# EAGLE library part LOGIC_7432 (library akita)
7432, 4x2OR
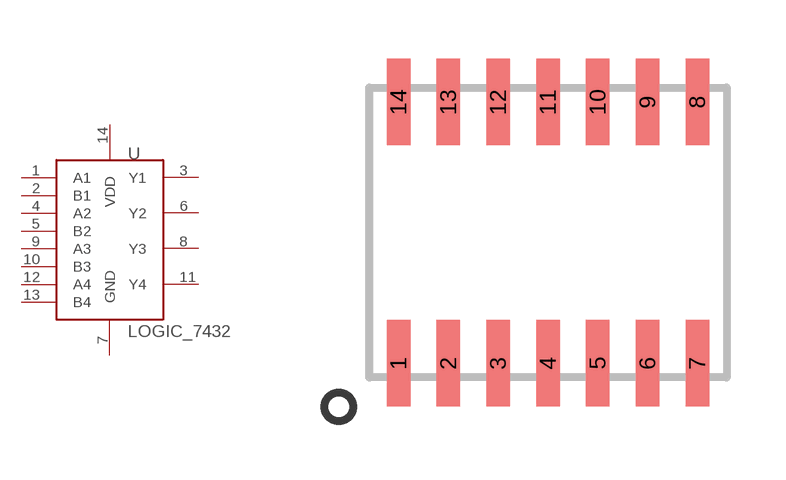
[diagram p140: symbol with the pads of SOIC14; footprint SOIC14]

Designator prefix U

## LOGIC_7432  [SOIC14]
1  A1
2  B1
3  Y1
4  A2
5  B2
6  Y2
7  GND
8  Y3
9  A3
10  B3
11  Y4
12  A4
13  B4
14  VDD

## Footprint SOIC14 (pad centres in mm)
smd 0.6 x 2.2: 1 -3.81,-3.33; 2 -2.54,-3.33; 3 -1.27,-3.33; 4 0,-3.33; 5 1.27,-3.33; 6 2.54,-3.33; 7 3.81,-3.33; 8 3.81,3.33; 9 2.54,3.33; 10 1.27,3.33; 11 0,3.33; 12 -1.27,3.33; 13 -2.54,3.33; 14 -3.81,3.33